# Altium schematic symbol library SCH - LOGIC - SN74LVC1G08DCKR.SCHLIB: 1 symbol
Pins are listed as number, name and electrical type; pins without a type are passive.

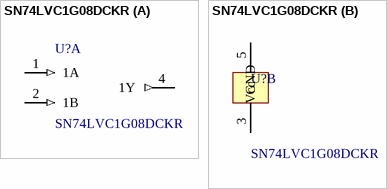
[diagram p0: symbol SN74LVC1G08DCKR]

## SN74LVC1G08DCKR
designator U?
IC, Logic, AND-Gate, 2 Input, Single; Manufacturer: Texas Instruments; Category: logic; Manufacturer Part Number: SN74LVC1G08DCKR; Pins: 5; Supplier 1: Mouser; Supplier Part Number 1: 595-SN74LVC1G08DCKR; Mounting Style: SMT; Created: 2020_10_21_MGremer; Package: SC70
footprint SOT65P210X110-5N
part A pins: 1 1A (in), 2 1B (in), 4 1Y (out) "Output"
part B pins: 3 GND (power), 5 Vcc (power)